# Altium footprint library 464HardwareProject.PcbLib: 24 footprints (part 2 of 2)
Each footprint in its own frame and in the unit in brackets; x right, y up, seen from the top. Pads: shape width x height; smd on the part's side, far side on the other; paste and mask are expansions set on the pad; w line width, h text height; cw(c..) or ccw(c..) is an arc to the next point about the centre after c.
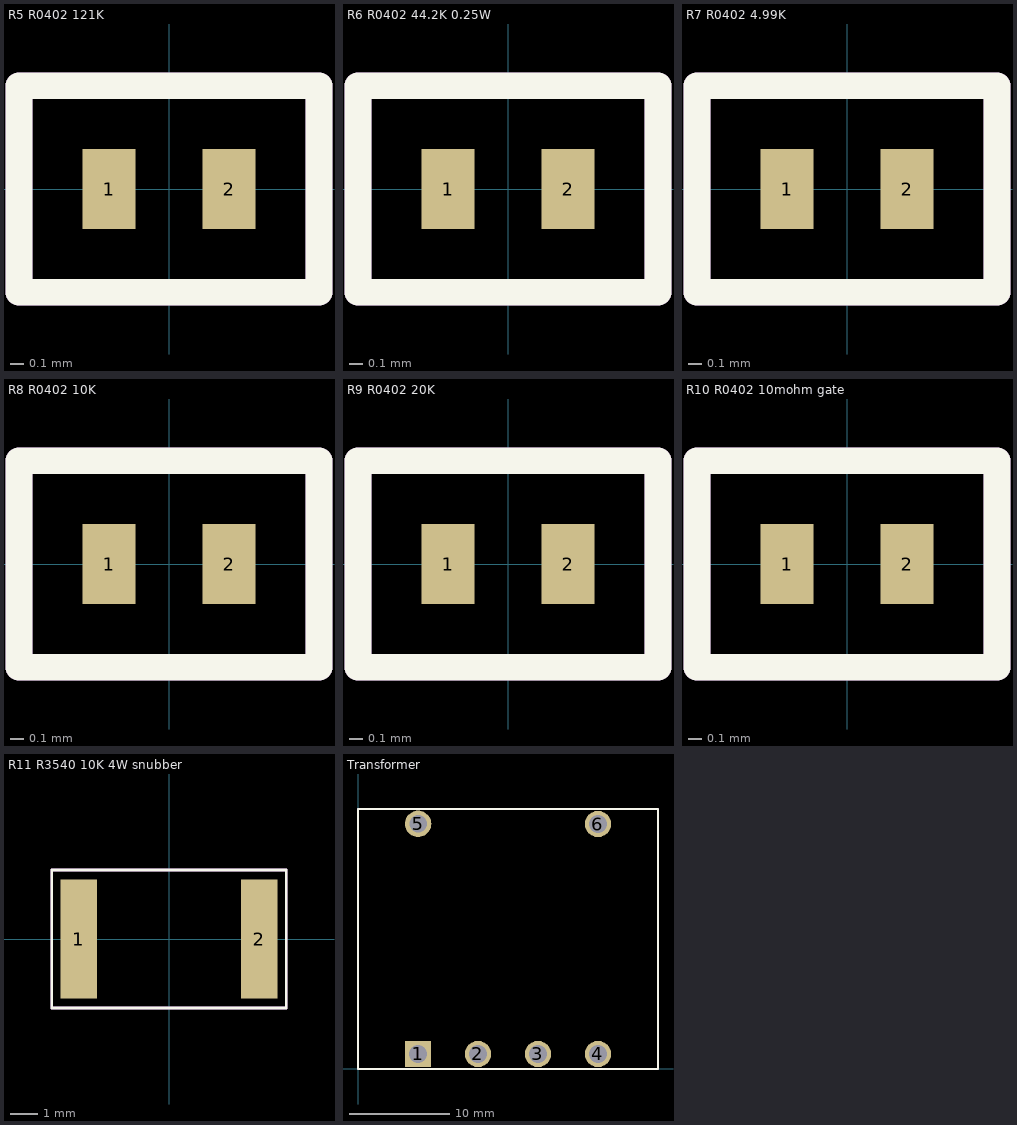
[diagram p1: the footprints below, top view; thin cyan lines are the x and y axes]

## R5 R0402 121K [mm]
pads (2):
  rect 0.4x0.6 smd: 1(-0.45,0) 2(0.45,0)
Top Overlay:
  lines w0.2: -1.125,-0.775 1.125,-0.775 1.125,0.775 -1.125,0.775 -1.125,-0.775
Mechanical 13:
  lines w0.2: -1.125,-0.775 1.125,-0.775 1.125,0.775 -1.125,0.775 -1.125,-0.775
  text "'.Designator'" at -0.699,0.119 h0.2
3D body "RN73C1E57K6BTDF.STEP": height 0.35, standoff 0, extent -0.5,-0.25 0.5,0.25

## R6 R0402 44.2K 0.25W [mm]
pads (2):
  rect 0.4x0.6 smd: 1(-0.45,0) 2(0.45,0)
Top Overlay:
  lines w0.2: -1.125,-0.775 1.125,-0.775 1.125,0.775 -1.125,0.775 -1.125,-0.775
Mechanical 13:
  lines w0.2: -1.125,-0.775 1.125,-0.775 1.125,0.775 -1.125,0.775 -1.125,-0.775
  text "'.Designator'" at -0.66,-0.025 h0.38
3D body "RN73C1E57K6BTDF.STEP": height 0.36, standoff 0.01, extent -0.5,-0.25 0.5,0.25

## R7 R0402 4.99K [mm]
pads (2):
  rect 0.4x0.6 smd: 1(-0.45,0) 2(0.45,0)
Top Overlay:
  lines w0.2: -1.125,-0.775 1.125,-0.775 1.125,0.775 -1.125,0.775 -1.125,-0.775
Mechanical 13:
  lines w0.2: -1.125,-0.775 1.125,-0.775 1.125,0.775 -1.125,0.775 -1.125,-0.775
  text "'.Designator'" at -0.66,-0.025 h0.38
3D body "RN73C1E57K6BTDF.STEP": height 0.36, standoff 0.01, extent -0.5,-0.25 0.5,0.25

## R8 R0402 10K [mm]
pads (2):
  rect 0.4x0.6 smd: 1(-0.45,0) 2(0.45,0)
Top Overlay:
  lines w0.2: -1.125,-0.775 -1.125,0.775 1.125,0.775 1.125,-0.775 -1.125,-0.775
Mechanical 13:
  lines w0.2: -1.125,-0.775 1.125,-0.775 1.125,0.775 -1.125,0.775 -1.125,-0.775
  text "'.Designator'" at -0.66,-0.025 h0.38
3D body "RN73C1E57K6BTDF.STEP": height 0.36, standoff 0.01, extent -0.5,-0.25 0.5,0.25

## R9 R0402 20K [mm]
pads (2):
  rect 0.4x0.6 smd: 1(-0.45,0) 2(0.45,0)
Top Overlay:
  lines w0.2: -1.125,-0.775 -1.125,0.775 1.125,0.775 1.125,-0.775 -1.125,-0.775
Mechanical 13:
  lines w0.2: -1.125,-0.775 -1.125,0.775 1.125,0.775 1.125,-0.775 -1.125,-0.775
  text "'.Designator'" at -0.66,-0.025 h0.38
3D body "RN73C1E57K6BTDF.STEP": height 0.36, standoff 0.01, extent -0.5,-0.25 0.5,0.25

## R10 R0402 10mohm gate [mm]
pads (2):
  rect 0.4x0.6 smd: 1(-0.45,0) 2(0.45,0)
Top Overlay:
  lines w0.2: -1.125,-0.775 -1.125,0.775 1.125,0.775 1.125,-0.775 -1.125,-0.775
Mechanical 13:
  lines w0.2: -1.125,-0.775 -1.125,0.775 1.125,0.775 1.125,-0.775 -1.125,-0.775
  text "'.Designator'" at -0.699,0.119 h0.2
3D body "RN73C1E57K6BTDF.STEP": height 0.35, standoff 0, extent -0.5,-0.25 0.5,0.25

## R11 R3540 10K 4W snubber [mm]
height 0.65
pads (2):
  rect 1.35x4.4 smd: 1(-3.325,0) 2(3.325,0)
Top Overlay:
  lines w0.1: -4.318,-2.54 4.318,-2.54 4.318,2.54 -4.318,2.54 -4.318,-2.54
Mechanical 13:
  lines w0.1: -4.318,-2.54 4.318,-2.54 4.318,2.54 -4.318,2.54 -4.318,-2.54
3D body "R11 R3540 10K 4W snubber.step": height 0.65, standoff 0, extent -3.65,-2.2 3.65,2.2

## Transformer [mm]
pads (6):
  rect 2.64x2.64 hole 1.76: 1(6,1.5)
  round 2.64 hole 1.76: 2(12,1.5) 3(18,1.5) 4(24,1.5) 5(6.009,24.518) 6(24,24.5)
Top Overlay:
  lines w0.2: 0,0 0,26 30,26 30,0 0,0
Mechanical 13:
  lines w0.2: 0,0 0,26 30,26 30,0 0,0
  text "'.Designator'" at 2.3,13.883 h1
3D body: height 25, standoff 5, extent 5,3.113 25,22.888
3D body: height 30, standoff 0, extent 0,9.5 30,16.5